# EAGLE library part AP7362-33SP-13 (library dr-library)
Diodes Inc. Ultra Low Dropout Linear Regulator AP7362C-33SP-13 Fixed output 3.3V
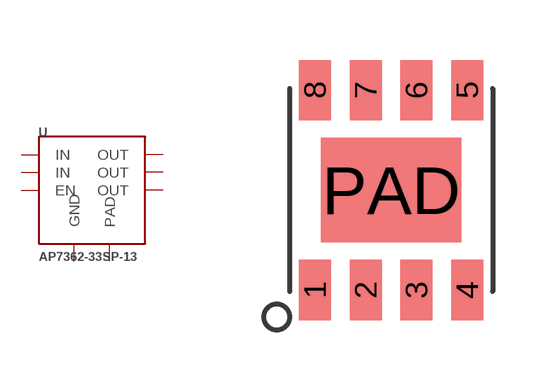
[diagram p26: symbol with the pads of SO-8EP; footprint SO-8EP]

Designator prefix U

## AP7362-33SP-13  [SO-8EP]
1  GND
2  EN
3  IN
4  IN
5  OUT
6  OUT
7  OUT
8  NC  nc
PAD  PAD

## Footprint SO-8EP (pad centres in mm)
smd 0.802 x 1.505: 1 -1.905,-2.498; 2 -0.635,-2.498; 3 0.635,-2.498; 4 1.905,-2.498; 5 1.905,2.498; 6 0.635,2.498; 7 -0.635,2.498; 8 -1.905,2.498
smd 3.502 x 2.613: PAD 0,0